# Altium footprint library eic_lib.PcbLib: 10 footprints
Each footprint in its own frame and in the unit in brackets; x right, y up, seen from the top. Pads: shape width x height; smd on the part's side, far side on the other; paste and mask are expansions set on the pad; w line width, h text height; cw(c..) or ccw(c..) is an arc to the next point about the centre after c.
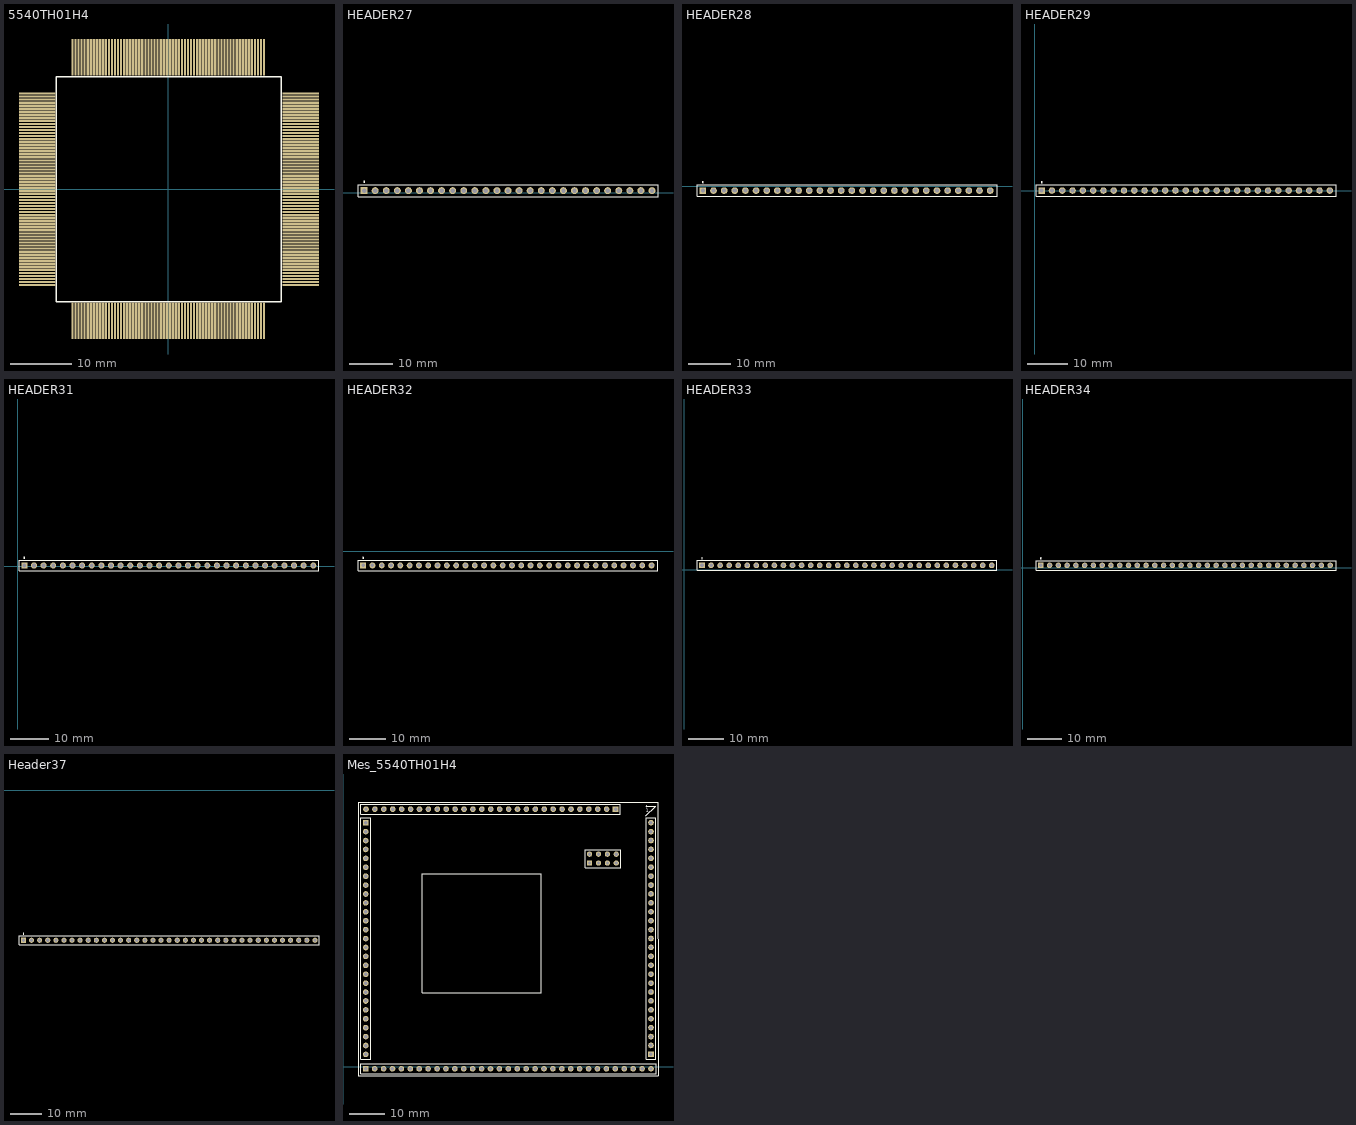
[diagram p0: the footprints below, top view; thin cyan lines are the x and y axes]

## 5540TH01H4 [mm]
pads (256):
  rect 0.375x6 smd: 1(-15.74,-21.601) 2(-15.24,-21.601) 3(-14.74,-21.601) 4(-14.24,-21.601) 5(-13.74,-21.601) 6(-13.24,-21.601) 7(-12.74,-21.601) 8(-12.24,-21.601) 9(-11.74,-21.601) 10(-11.24,-21.601) 11(-10.74,-21.601) 12(-10.24,-21.601) 13(-9.74,-21.601) 14(-9.24,-21.601) 15(-8.74,-21.601) 16(-8.24,-21.601) 17(-7.74,-21.601) 18(-7.24,-21.601) 19(-6.74,-21.601) 20(-6.24,-21.601) 21(-5.74,-21.601) 22(-5.24,-21.601) 23(-4.74,-21.601) 24(-4.24,-21.601) 25(-3.74,-21.601) 26(-3.24,-21.601) 27(-2.74,-21.601) 28(-2.24,-21.601) 29(-1.74,-21.601) 30(-1.24,-21.601) 31(-0.74,-21.601) 32(-0.24,-21.601) 33(0.26,-21.601) 34(0.76,-21.601) 35(1.26,-21.601) 36(1.76,-21.601) 37(2.26,-21.601) 38(2.76,-21.601) 39(3.26,-21.601) 40(3.76,-21.601) 41(4.26,-21.601) 42(4.76,-21.601) 43(5.26,-21.601) 44(5.76,-21.601) 45(6.26,-21.601) 46(6.76,-21.601) 47(7.26,-21.601) 48(7.76,-21.601) 49(8.26,-21.601) 50(8.76,-21.601) 51(9.26,-21.601) 52(9.76,-21.601) 53(10.26,-21.601) 54(10.76,-21.601) 55(11.26,-21.601) 56(11.76,-21.601) 57(12.26,-21.601) 58(12.76,-21.601) 59(13.26,-21.601) 60(13.76,-21.601) 61(14.26,-21.601) 62(14.76,-21.601) 63(15.26,-21.601) 64(15.76,-21.601) 129(15.76,21.701) 130(15.26,21.701) 131(14.76,21.701) 132(14.26,21.701) 133(13.76,21.701) 134(13.26,21.701) 135(12.76,21.701) 136(12.26,21.701) 137(11.76,21.701) 138(11.26,21.701) 139(10.76,21.701) 140(10.26,21.701) 141(9.76,21.701) 142(9.26,21.701) 143(8.76,21.701) 144(8.26,21.701) 145(7.76,21.701) 146(7.26,21.701) 147(6.76,21.701) 148(6.26,21.701) 149(5.76,21.701) 150(5.26,21.701) 151(4.76,21.701) 152(4.26,21.701) 153(3.76,21.701) 154(3.26,21.701) 155(2.76,21.701) 156(2.26,21.701) 157(1.76,21.701) 158(1.26,21.701) 159(0.76,21.701) 160(0.26,21.701) 161(-0.24,21.701) 162(-0.74,21.701) 163(-1.24,21.701) 164(-1.74,21.701) 165(-2.24,21.701) 166(-2.74,21.701) 167(-3.24,21.701) 168(-3.74,21.701) 169(-4.24,21.701) 170(-4.74,21.701) 171(-5.24,21.701) 172(-5.74,21.701) 173(-6.24,21.701) 174(-6.74,21.701) 175(-7.24,21.701) 176(-7.74,21.701) 177(-8.24,21.701) 178(-8.74,21.701) 179(-9.24,21.701) 180(-9.74,21.701) 181(-10.24,21.701) 182(-10.74,21.701) 183(-11.24,21.701) 184(-11.74,21.701) 185(-12.24,21.701) 186(-12.74,21.701) 187(-13.24,21.701) 188(-13.74,21.701) 189(-14.24,21.701) 190(-14.74,21.701) 191(-15.24,21.701) 192(-15.74,21.701)
  rect 6x0.375 smd: 65(21.8,-15.749) 66(21.8,-15.249) 67(21.8,-14.749) 68(21.8,-14.249) 69(21.8,-13.749) 70(21.8,-13.249) 71(21.8,-12.749) 72(21.8,-12.249) 73(21.8,-11.749) 74(21.8,-11.249) 75(21.8,-10.749) 76(21.8,-10.249) 77(21.8,-9.749) 78(21.8,-9.249) 79(21.8,-8.749) 80(21.8,-8.249) 81(21.8,-7.749) 82(21.8,-7.249) 83(21.8,-6.749) 84(21.8,-6.249) 85(21.8,-5.749) 86(21.8,-5.249) 87(21.8,-4.749) 88(21.8,-4.249) 89(21.8,-3.749) 90(21.8,-3.249) 91(21.8,-2.749) 92(21.8,-2.249) 93(21.8,-1.749) 94(21.8,-1.249) 95(21.8,-0.749) 96(21.8,-0.249) 97(21.8,0.251) 98(21.8,0.751) 99(21.8,1.251) 100(21.8,1.751) 101(21.8,2.251) 102(21.8,2.751) 103(21.8,3.251) 104(21.8,3.751) 105(21.8,4.251) 106(21.8,4.751) 107(21.8,5.251) 108(21.8,5.751) 109(21.8,6.251) 110(21.8,6.751) 111(21.8,7.251) 112(21.8,7.751) 113(21.8,8.251) 114(21.8,8.751) 115(21.8,9.251) 116(21.8,9.751) 117(21.8,10.251) 118(21.8,10.751) 119(21.8,11.251) 120(21.8,11.751) 121(21.8,12.251) 122(21.8,12.751) 123(21.8,13.251) 124(21.8,13.751) 125(21.8,14.251) 126(21.8,14.751) 127(21.8,15.251) 128(21.8,15.751) 193(-21.488,15.748) 194(-21.5,15.251) 195(-21.5,14.751) 196(-21.5,14.251) 197(-21.5,13.751) 198(-21.5,13.251) 199(-21.5,12.751) 200(-21.5,12.251) 201(-21.5,11.751) 202(-21.5,11.251) 203(-21.5,10.751) 204(-21.5,10.251) 205(-21.5,9.751) 206(-21.5,9.251) 207(-21.5,8.751) 208(-21.5,8.251) 209(-21.5,7.751) 210(-21.5,7.251) 211(-21.5,6.751) 212(-21.5,6.251) 213(-21.5,5.751) 214(-21.5,5.251) 215(-21.5,4.751) 216(-21.5,4.251) 217(-21.5,3.751) 218(-21.5,3.251) 219(-21.5,2.751) 220(-21.5,2.251) 221(-21.5,1.751) 222(-21.5,1.251) 223(-21.5,0.751) 224(-21.5,0.251) 225(-21.5,-0.249) 226(-21.5,-0.749) 227(-21.5,-1.249) 228(-21.5,-1.749) 229(-21.5,-2.249) 230(-21.5,-2.749) 231(-21.5,-3.249) 232(-21.5,-3.749) 233(-21.5,-4.249) 234(-21.5,-4.749) 235(-21.5,-5.249) 236(-21.5,-5.749) 237(-21.5,-6.249) 238(-21.5,-6.749) 239(-21.5,-7.249) 240(-21.5,-7.749) 241(-21.5,-8.249) 242(-21.5,-8.749) 243(-21.5,-9.249) 244(-21.5,-9.749) 245(-21.5,-10.249) 246(-21.5,-10.749) 247(-21.5,-11.249) 248(-21.5,-11.749) 249(-21.5,-12.249) 250(-21.5,-12.749) 251(-21.5,-13.249) 252(-21.5,-13.749) 253(-21.5,-14.249) 254(-21.5,-14.749) 255(-21.5,-15.249) 256(-21.525,-15.75)
Top Overlay:
  lines w0.254: -18.4,-18.475 18.6,-18.475 18.6,18.525 -18.4,18.525 -18.4,-18.475

## HEADER27 [mm]
pads (27):
  rect 1.6x1.6 hole 0.99: 1(7.683,0.48)
  round 1.6 hole 0.99: 2(10.223,0.48) 3(12.763,0.48) 4(15.303,0.48) 5(17.843,0.48) 6(20.383,0.48) 7(22.923,0.48) 8(25.463,0.48) 9(28.003,0.48) 10(30.543,0.48) 11(33.083,0.48) 12(35.623,0.48) 13(38.163,0.48) 14(40.703,0.48) 15(43.243,0.48) 16(45.783,0.48) 17(48.323,0.48) 18(50.863,0.48) 19(53.403,0.48) 20(55.943,0.48) 21(58.483,0.48) 22(61.023,0.48) 23(63.563,0.48) 24(66.103,0.48) 25(68.643,0.48) 26(71.183,0.48) 27(73.723,0.48)
Top Overlay:
  circle w0.25: c7.683,2.53 r0.125
  lines w0.2: 6.283,-0.92 75.1,-0.92 75.1,1.88 6.283,1.88 6.283,-0.92

## HEADER28 [mm]
pads (28):
  rect 1.6x1.6 hole 0.99: 1(8.983,-1.02)
  round 1.6 hole 0.99: 2(11.523,-1.02) 3(14.063,-1.02) 4(16.603,-1.02) 5(19.143,-1.02) 6(21.683,-1.02) 7(24.223,-1.02) 8(26.763,-1.02) 9(29.303,-1.02) 10(31.843,-1.02) 11(34.383,-1.02) 12(36.923,-1.02) 13(39.463,-1.02) 14(42.003,-1.02) 15(44.543,-1.02) 16(47.083,-1.02) 17(49.623,-1.02) 18(52.163,-1.02) 19(54.703,-1.02) 20(57.243,-1.02) 21(59.783,-1.02) 22(62.323,-1.02) 23(64.863,-1.02) 24(67.403,-1.02) 25(69.943,-1.02) 26(72.483,-1.02) 27(75.023,-1.02) 28(77.563,-1.02)
Top Overlay:
  circle w0.25: c8.983,1.03 r0.125
  lines w0.2: 7.583,-2.42 7.583,0.38 79.2,0.38 79.2,-2.42 7.583,-2.42

## HEADER29 [mm]
pads (29):
  rect 1.6x1.6 hole 0.99: 1(1.754,0.044)
  round 1.6 hole 0.99: 2(4.294,0.044) 3(6.834,0.044) 4(9.374,0.044) 5(11.914,0.044) 6(14.454,0.044) 7(16.994,0.044) 8(19.534,0.044) 9(22.074,0.044) 10(24.614,0.044) 11(27.154,0.044) 12(29.694,0.044) 13(32.234,0.044) 14(34.774,0.044) 15(37.314,0.044) 16(39.854,0.044) 17(42.394,0.044) 18(44.934,0.044) 19(47.474,0.044) 20(50.014,0.044) 21(52.554,0.044) 22(55.094,0.044) 23(57.634,0.044) 24(60.174,0.044) 25(62.714,0.044) 26(65.254,0.044) 27(67.794,0.044) 28(70.334,0.044) 29(72.874,0.044)
Top Overlay:
  circle w0.25: c1.754,2.094 r0.125
  lines w0.2: 0.354,-1.356 74.4,-1.356 74.4,1.444 0.354,1.444 0.354,-1.356

## HEADER31 [mm]
pads (31):
  rect 1.6x1.6 hole 0.99: 1(1.754,0.144)
  round 1.6 hole 0.99: 2(4.294,0.144) 3(6.834,0.144) 4(9.374,0.144) 5(11.914,0.144) 6(14.454,0.144) 7(16.994,0.144) 8(19.534,0.144) 9(22.074,0.144) 10(24.614,0.144) 11(27.154,0.144) 12(29.694,0.144) 13(32.234,0.144) 14(34.774,0.144) 15(37.314,0.144) 16(39.854,0.144) 17(42.394,0.144) 18(44.934,0.144) 19(47.474,0.144) 20(50.014,0.144) 21(52.554,0.144) 22(55.094,0.144) 23(57.634,0.144) 24(60.174,0.144) 25(62.714,0.144) 26(65.254,0.144) 27(67.794,0.144) 28(70.334,0.144) 29(72.874,0.144) 30(75.434,0.144) 31(77.974,0.144)
Top Overlay:
  circle w0.25: c1.754,2.194 r0.125
  lines w0.2: 0.354,-1.256 79.477,-1.256 79.477,1.544 0.354,1.544 0.354,-1.256

## HEADER32 [mm]
pads (32):
  rect 1.6x1.6 hole 0.99: 1(17.883,-3.92)
  round 1.6 hole 0.99: 2(20.423,-3.92) 3(22.963,-3.92) 4(25.503,-3.92) 5(28.043,-3.92) 6(30.583,-3.92) 7(33.123,-3.92) 8(35.663,-3.92) 9(38.203,-3.92) 10(40.743,-3.92) 11(43.283,-3.92) 12(45.823,-3.92) 13(48.363,-3.92) 14(50.903,-3.92) 15(53.443,-3.92) 16(55.983,-3.92) 17(58.523,-3.92) 18(61.063,-3.92) 19(63.603,-3.92) 20(66.143,-3.92) 21(68.683,-3.92) 22(71.223,-3.92) 23(73.763,-3.92) 24(76.303,-3.92) 25(78.843,-3.92) 26(81.383,-3.92) 27(83.923,-3.92) 28(86.463,-3.92) 29(89.003,-3.92) 30(91.563,-3.92) 31(94.103,-3.92) 32(96.643,-3.92)
Top Overlay:
  circle w0.25: c17.883,-1.87 r0.125
  lines w0.2: 16.483,-5.32 16.483,-2.52 98.4,-2.52 98.4,-5.32 16.483,-5.32

## HEADER33 [mm]
pads (33):
  rect 1.6x1.6 hole 0.99: 1(5.019,1.24)
  round 1.6 hole 0.99: 2(7.559,1.24) 3(10.099,1.24) 4(12.639,1.24) 5(15.179,1.24) 6(17.719,1.24) 7(20.259,1.24) 8(22.799,1.24) 9(25.339,1.24) 10(27.879,1.24) 11(30.419,1.24) 12(32.959,1.24) 13(35.499,1.24) 14(38.039,1.24) 15(40.579,1.24) 16(43.119,1.24) 17(45.659,1.24) 18(48.199,1.24) 19(50.739,1.24) 20(53.279,1.24) 21(55.819,1.24) 22(58.359,1.24) 23(60.899,1.24) 24(63.439,1.24) 25(65.979,1.24) 26(68.519,1.24) 27(71.059,1.24) 28(73.599,1.24) 29(76.139,1.24) 30(78.699,1.24) 31(81.239,1.24) 32(83.779,1.24) 33(86.319,1.24)
Top Overlay:
  circle w0.25: c5.019,3.29 r0.125
  lines w0.2: 3.619,-0.16 3.619,2.64 87.8,2.64 87.8,-0.16 3.619,-0.16

## HEADER34 [mm]
pads (34):
  rect 1.6x1.6 hole 0.99: 1(5.205,0.677)
  round 1.6 hole 0.99: 2(7.745,0.677) 3(10.285,0.677) 4(12.825,0.677) 5(15.365,0.677) 6(17.905,0.677) 7(20.445,0.677) 8(22.985,0.677) 9(25.525,0.677) 10(28.065,0.677) 11(30.605,0.677) 12(33.145,0.677) 13(35.685,0.677) 14(38.225,0.677) 15(40.765,0.677) 16(43.305,0.677) 17(45.845,0.677) 18(48.385,0.677) 19(50.925,0.677) 20(53.465,0.677) 21(56.005,0.677) 22(58.545,0.677) 23(61.085,0.677) 24(63.625,0.677) 25(66.165,0.677) 26(68.705,0.677) 27(71.245,0.677) 28(73.785,0.677) 29(76.325,0.677) 30(78.885,0.677) 31(81.425,0.677) 32(83.965,0.677) 33(86.505,0.677) 34(89.045,0.677)
Top Overlay:
  circle w0.25: c5.205,2.727 r0.125
  lines w0.2: 3.805,-0.723 3.805,2.077 90.729,2.077 90.729,-0.723 3.805,-0.723

## Header37 [mm]
pads (37):
  rect 1.6x1.6 hole 0.99: 1(162.355,-47.05)
  round 1.6 hole 0.99: 2(164.895,-47.05) 3(167.435,-47.05) 4(169.975,-47.05) 5(172.515,-47.05) 6(175.055,-47.05) 7(177.595,-47.05) 8(180.135,-47.05) 9(182.675,-47.05) 10(185.215,-47.05) 11(187.755,-47.05) 12(190.295,-47.05) 13(192.835,-47.05) 14(195.375,-47.05) 15(197.915,-47.05) 16(200.455,-47.05) 17(202.995,-47.05) 18(205.535,-47.05) 19(208.075,-47.05) 20(210.615,-47.05) 21(213.155,-47.05) 22(215.695,-47.05) 23(218.235,-47.05) 24(220.775,-47.05) 25(223.315,-47.05) 26(225.855,-47.05) 27(228.395,-47.05) 28(230.935,-47.05) 29(233.475,-47.05) 30(236.035,-47.05) 31(238.575,-47.05) 32(241.115,-47.05) 33(243.655,-47.05) 34(246.195,-47.05) 35(248.735,-47.05) 36(251.275,-47.05) 37(253.815,-47.05)
Top Overlay:
  circle w0.25: c162.355,-45 r0.125
  lines w0.2: 160.955,-48.45 160.955,-45.65 255.1,-45.65 255.1,-48.45 160.955,-48.45

## Mes_5540TH01H4 [mm]
pads (124):
  rect 1.6x1.6 hole 0.99: 1(77.6,73.4) 30(6.4,69.54) 57(6.405,-0.58) 90(87.7,3.52)
  round 1.6 hole 0.99: 2(75.06,73.4) 3(72.52,73.4) 4(69.98,73.4) 5(67.44,73.4) 6(64.9,73.4) 7(62.36,73.4) 8(59.82,73.4) 9(57.28,73.4) 10(54.74,73.4) 11(52.2,73.4) 12(49.66,73.4) 13(47.12,73.4) 14(44.58,73.4) 15(42.04,73.4) 16(39.5,73.4) 17(36.96,73.4) 18(34.42,73.4) 19(31.88,73.4) 20(29.34,73.4) 21(26.8,73.4) 22(24.26,73.4) 23(21.72,73.4) 24(19.18,73.4) 25(16.64,73.4) 26(14.1,73.4) 27(11.56,73.4) 28(9.02,73.4) 29(6.48,73.4) 31(6.4,67) 32(6.4,64.46) 33(6.4,61.92) 34(6.4,59.38) 35(6.4,56.84) 36(6.4,54.3) 37(6.4,51.76) 38(6.4,49.22) 39(6.4,46.68) 40(6.4,44.14) 41(6.4,41.6) 42(6.4,39.06) 43(6.4,36.52) 44(6.4,33.98) 45(6.4,31.44) 46(6.4,28.9) 47(6.4,26.36) 48(6.4,23.82) 49(6.4,21.28) 50(6.4,18.74) 51(6.4,16.2) 52(6.4,13.66) 53(6.4,11.12) 54(6.4,8.58) 55(6.4,6.04) 56(6.4,3.5) 58(8.945,-0.58) 59(11.485,-0.58) 60(14.025,-0.58) 61(16.565,-0.58) 62(19.105,-0.58) 63(21.645,-0.58) 64(24.185,-0.58) 65(26.725,-0.58) 66(29.265,-0.58) 67(31.805,-0.58) 68(34.345,-0.58) 69(36.885,-0.58) 70(39.425,-0.58) 71(41.965,-0.58) 72(44.505,-0.58) 73(47.045,-0.58) 74(49.585,-0.58) 75(52.125,-0.58) 76(54.665,-0.58) 77(57.205,-0.58) 78(59.745,-0.58) 79(62.285,-0.58) 80(64.825,-0.58) 81(67.365,-0.58) 82(69.905,-0.58) 83(72.445,-0.58) 84(74.985,-0.58) 85(77.525,-0.58) 86(80.085,-0.58) 87(82.625,-0.58) 88(85.165,-0.58) 89(87.705,-0.58) 91(87.7,6.06) 92(87.7,8.6) 93(87.7,11.14) 94(87.7,13.68) 95(87.7,16.22) 96(87.7,18.76) 97(87.7,21.3) 98(87.7,23.84) 99(87.7,26.38) 100(87.7,28.92) 101(87.7,31.46) 102(87.7,34) 103(87.7,36.54) 104(87.7,39.08) 105(87.7,41.62) 106(87.7,44.16) 107(87.7,46.7) 108(87.7,49.24) 109(87.7,51.78) 110(87.7,54.32) 111(87.7,56.86) 112(87.7,59.4) 113(87.7,61.94) 114(87.7,64.48) 115(87.7,67.02) 116(87.7,69.56)
  rect 1.5x1.5 hole 0.9: 117(70.195,58.035)
  round 1.5 hole 0.9: 118(70.195,60.575) 119(75.275,60.575) 120(72.735,60.575) 121(72.735,58.035) 122(75.275,58.035) 123(77.815,60.575) 124(77.815,58.035)
Top Overlay:
  lines w0.15: 86.25,71.525 89,74.275 86.35,74.275 ; 86.55,74.1 86.4,74.25 86.4,74.275 86.35,74.275 ; 86.55,74.475 86.35,74.275
  lines w0.2: 4.954,72 79,72 79,74.8 4.954,74.8 4.954,72 ; 5,2.123 7.8,2.123 7.8,70.94 5,70.94 5,2.123 ; 5.005,-1.98 89.186,-1.98 89.186,0.82 5.005,0.82 5.005,-1.98 ; 68.925,56.765 68.925,61.845 79.085,61.845 79.085,56.765 68.925,56.765 ; 86.3,2.12 89.1,2.12 89.1,70.937 86.3,70.937 86.3,2.12
  lines w0.254: 4.2,-2.6 4.2,75.4 89.7,75.4 89.7,-2.6 4.2,-2.6 ; 22.465,21.092 54.892,21.092 56.375,21.092 56.375,22.575 56.375,54.95 22.465,54.95 22.465,21.092
  text "1" at 86.275,72.55 h1